# EAGLE library part BNO055 (library BNO055)
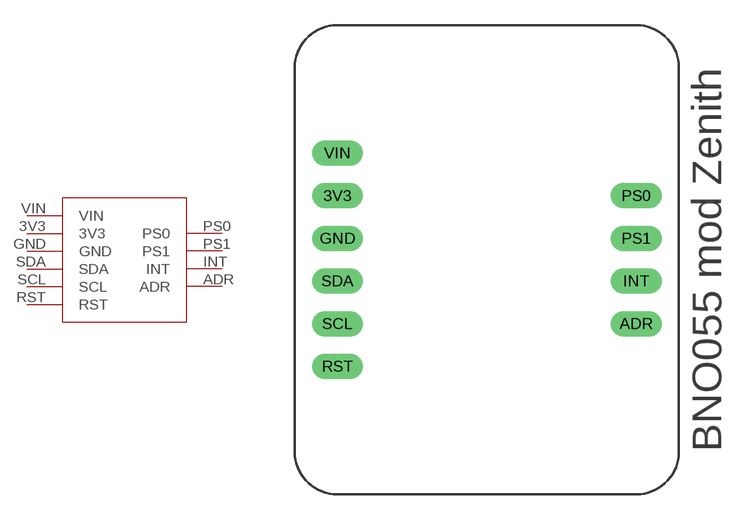
[diagram p0: symbol with the pads of BNO055_MOD; footprint BNO055_MOD]

Designator prefix -

## BNO055  [BNO055_MOD]
3V3  3V3
ADR  ADR
GND  GND
INT  INT
PS0  PS0
PS1  PS1
RST  RST
SCL  SCL
SDA  SDA
VIN  VIN

## Footprint BNO055_MOD (pad centres in mm)
drill 1.016 long: 3V3 -12.7,5.08; ADR 5.08,-2.54; GND -12.7,2.54; INT 5.08,0; PS0 5.08,5.08; PS1 5.08,2.54; RST -12.7,-5.08; SCL -12.7,-2.54; SDA -12.7,0; VIN -12.7,7.62